# EAGLE library part DDR_II (library con-fci)
DDR II 240P Source: http://portal.fciconnect.com - gs-12-251.pdf
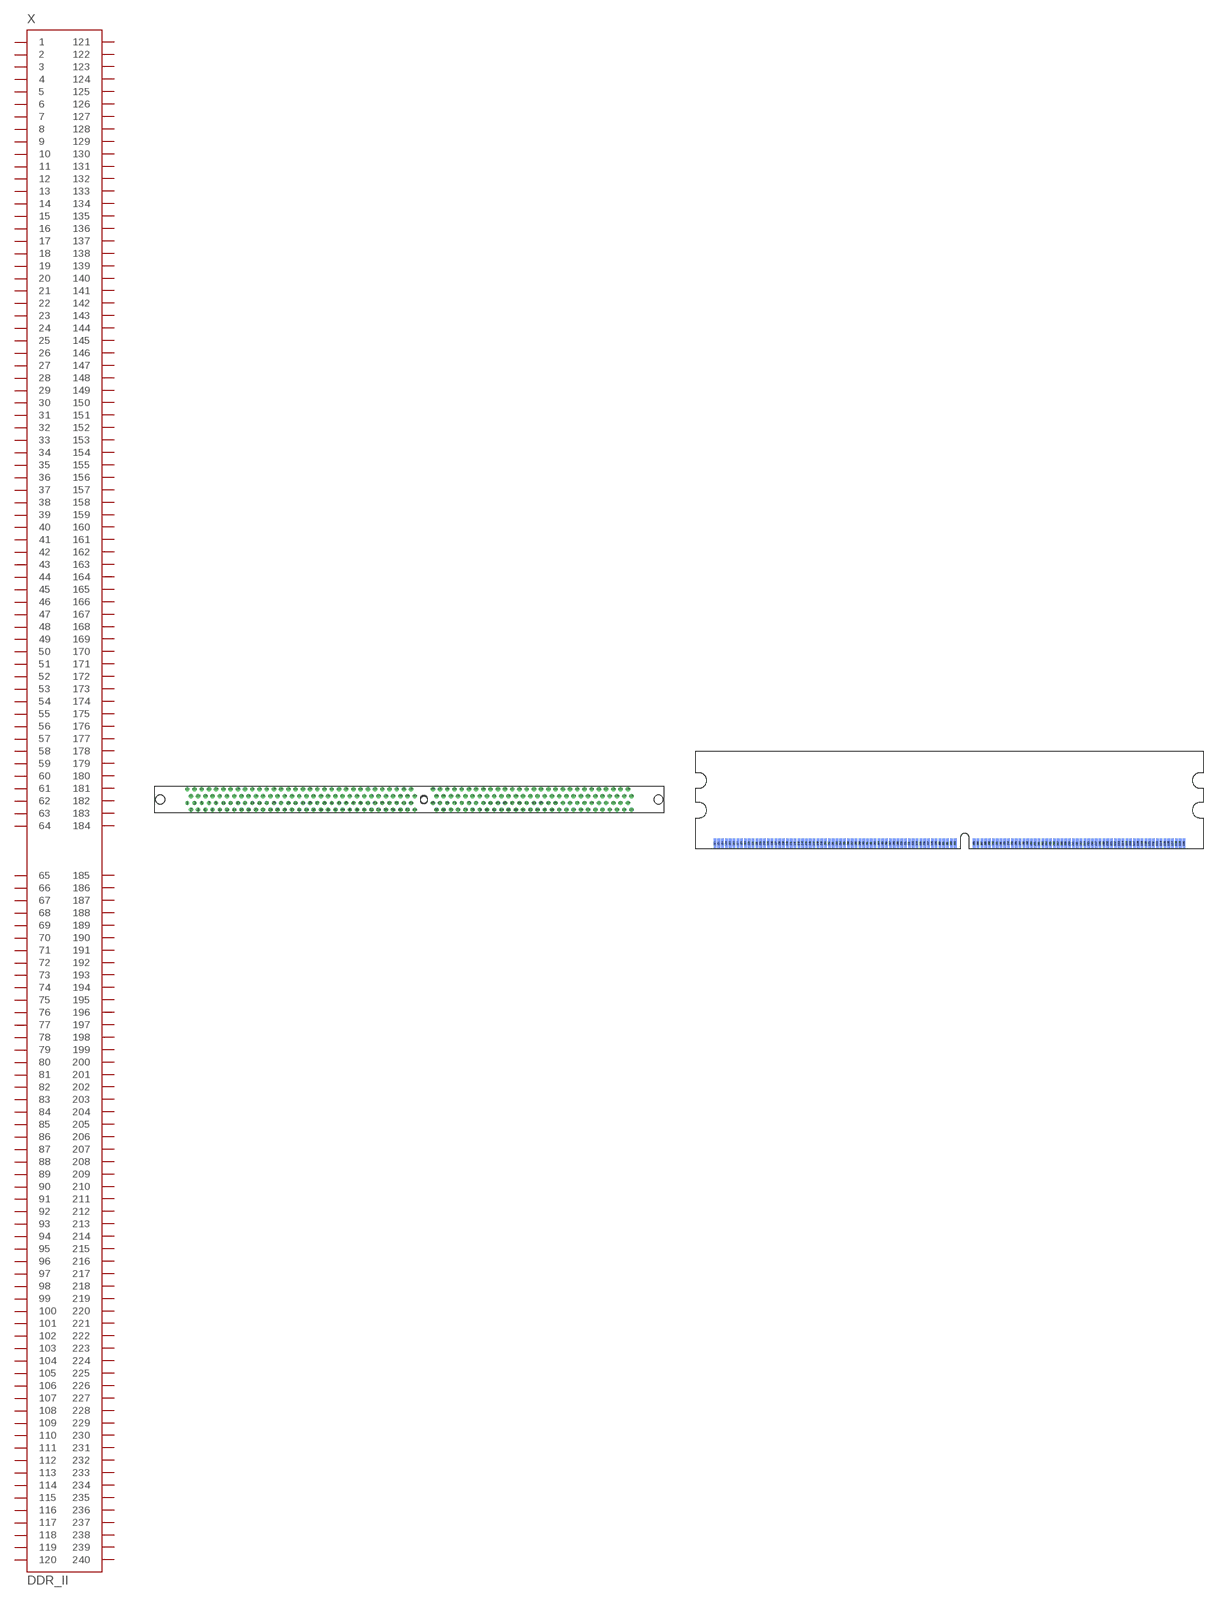
[diagram p0: symbol with the pads of GS-12-251; footprints GS-12-251, DDR_II_MODUL]

Designator prefix X

## DDR_IIGS-12-251 (OC_FARNELL: unknown; OC_NEWARK: unknown)  [GS-12-251]
1  1  pas
2  2  pas
3  3  pas
4  4  pas
5  5  pas
6  6  pas
7  7  pas
8  8  pas
9  9  pas
10  10  pas
11  11  pas
12  12  pas
13  13  pas
14  14  pas
15  15  pas
16  16  pas
17  17  pas
18  18  pas
19  19  pas
20  20  pas
21  21  pas
22  22  pas
23  23  pas
24  24  pas
25  25  pas
26  26  pas
27  27  pas
28  28  pas
29  29  pas
30  30  pas
31  31  pas
32  32  pas
33  33  pas
34  34  pas
35  35  pas
36  36  pas
37  37  pas
38  38  pas
39  39  pas
40  40  pas
41  41  pas
42  42  pas
43  43  pas
44  44  pas
45  45  pas
46  46  pas
47  47  pas
48  48  pas
49  49  pas
50  50  pas
51  51  pas
52  52  pas
53  53  pas
54  54  pas
55  55  pas
56  56  pas
57  57  pas
58  58  pas
59  59  pas
60  60  pas
61  61  pas
62  62  pas
63  63  pas
64  64  pas
65  65  pas
66  66  pas
67  67  pas
68  68  pas
69  69  pas
70  70  pas
71  71  pas
72  72  pas
73  73  pas
74  74  pas
75  75  pas
76  76  pas
77  77  pas
78  78  pas
79  79  pas
80  80  pas
81  81  pas
82  82  pas
83  83  pas
84  84  pas
85  85  pas
86  86  pas
87  87  pas
88  88  pas
89  89  pas
90  90  pas
91  91  pas
92  92  pas
93  93  pas
94  94  pas
95  95  pas
96  96  pas
97  97  pas
98  98  pas
99  99  pas
100  100  pas
101  101  pas
102  102  pas
103  103  pas
104  104  pas
105  105  pas
106  106  pas
107  107  pas
108  108  pas
109  109  pas
110  110  pas
111  111  pas
112  112  pas
113  113  pas
114  114  pas
115  115  pas
116  116  pas
117  117  pas
118  118  pas
119  119  pas
120  120  pas
121  121  pas
122  122  pas
123  123  pas
124  124  pas
125  125  pas
126  126  pas
127  127  pas
128  128  pas
129  129  pas
130  130  pas
131  131  pas
132  132  pas
133  133  pas
134  134  pas
135  135  pas
136  136  pas
137  137  pas
138  138  pas
139  139  pas
140  140  pas
141  141  pas
142  142  pas
143  143  pas
144  144  pas
145  145  pas
146  146  pas
147  147  pas
148  148  pas
149  149  pas
150  150  pas
151  151  pas
152  152  pas
153  153  pas
154  154  pas
155  155  pas
156  156  pas
157  157  pas
158  158  pas
159  159  pas
160  160  pas
161  161  pas
162  162  pas
163  163  pas
164  164  pas
165  165  pas
166  166  pas
167  167  pas
168  168  pas
169  169  pas
170  170  pas
171  171  pas
172  172  pas
173  173  pas
174  174  pas
175  175  pas
176  176  pas
177  177  pas
178  178  pas
179  179  pas
180  180  pas
181  181  pas
182  182  pas
183  183  pas
184  184  pas
185  185  pas
186  186  pas
187  187  pas
188  188  pas
189  189  pas
190  190  pas
191  191  pas
192  192  pas
193  193  pas
194  194  pas
195  195  pas
196  196  pas
197  197  pas
198  198  pas
199  199  pas
200  200  pas
201  201  pas
202  202  pas
203  203  pas
204  204  pas
205  205  pas
206  206  pas
207  207  pas
208  208  pas
209  209  pas
210  210  pas
211  211  pas
212  212  pas
213  213  pas
214  214  pas
215  215  pas
216  216  pas
217  217  pas
218  218  pas
219  219  pas
220  220  pas
221  221  pas
222  222  pas
223  223  pas
224  224  pas
225  225  pas
226  226  pas
227  227  pas
228  228  pas
229  229  pas
230  230  pas
231  231  pas
232  232  pas
233  233  pas
234  234  pas
235  235  pas
236  236  pas
237  237  pas
238  238  pas
239  239  pas
240  240  pas

## DDR_IIDDR_II_MODUL (OC_FARNELL: unknown; OC_NEWARK: unknown)  [DDR_II_MODUL]
Pads as for GS-12-251

## Footprint GS-12-251 (pad centres in mm)
DDR II 240P SOCKETD, 0.039" (1.00mm) PITCH Source: http://portal.fciconnect.com - gs-12-251.pdf
drill 0.7 pad 1.016: 1 -65.5,-0.95; 2 -64.5,-2.85; 3 -63.5,-0.95; 4 -62.5,-2.85; 5 -61.5,-0.95; 6 -60.5,-2.85; 7 -59.5,-0.95; 8 -58.5,-2.85; 9 -57.5,-0.95; 10 -56.5,-2.85; 11 -55.5,-0.95; 12 -54.5,-2.85; 13 -53.5,-0.95; 14 -52.5,-2.85; 15 -51.5,-0.95; 16 -50.5,-2.85; 17 -49.5,-0.95; 18 -48.5,-2.85; 19 -47.5,-0.95; 20 -46.5,-2.85; 21 -45.5,-0.95; 22 -44.5,-2.85; 23 -43.5,-0.95; 24 -42.5,-2.85; 25 -41.5,-0.95; 26 -40.5,-2.85; 27 -39.5,-0.95; 28 -38.5,-2.85; 29 -37.5,-0.95; 30 -36.5,-2.85; 31 -35.5,-0.95; 32 -34.5,-2.85; 33 -33.5,-0.95; 34 -32.5,-2.85; 35 -31.5,-0.95; 36 -30.5,-2.85; 37 -29.5,-0.95; 38 -28.5,-2.85; 39 -27.5,-0.95; 40 -26.5,-2.85; 41 -25.5,-0.95; 42 -24.5,-2.85; 43 -23.5,-0.95; 44 -22.5,-2.85; 45 -21.5,-0.95; 46 -20.5,-2.85; 47 -19.5,-0.95; 48 -18.5,-2.85; 49 -17.5,-0.95; 50 -16.5,-2.85; 51 -15.5,-0.95; 52 -14.5,-2.85; 53 -13.5,-0.95; 54 -12.5,-2.85; 55 -11.5,-0.95; 56 -10.5,-2.85; 57 -9.5,-0.95; 58 -8.5,-2.85; 59 -7.5,-0.95; 60 -6.5,-2.85; 61 -5.5,-0.95; 62 -4.5,-2.85; 63 -3.5,-0.95; 64 -2.5,-2.85; 65 2.5,-0.95; 66 3.5,-2.85; 67 4.5,-0.95; 68 5.5,-2.85; 69 6.5,-0.95; 70 7.5,-2.85; 71 8.5,-0.95; 72 9.5,-2.85; 73 10.5,-0.95; 74 11.5,-2.85; 75 12.5,-0.95; 76 13.5,-2.85; 77 14.5,-0.95; 78 15.5,-2.85; 79 16.5,-0.95; 80 17.5,-2.85; 81 18.5,-0.95; 82 19.5,-2.85; 83 20.5,-0.95; 84 21.5,-2.85; 85 22.5,-0.95; 86 23.5,-2.85; 87 24.5,-0.95; 88 25.5,-2.85; 89 26.5,-0.95; 90 27.5,-2.85; 91 28.5,-0.95; 92 29.5,-2.85; 93 30.5,-0.95; 94 31.5,-2.85; 95 32.5,-0.95; 96 33.5,-2.85; 97 34.5,-0.95; 98 35.5,-2.85; 99 36.5,-0.95; 100 37.5,-2.85; 101 38.5,-0.95; 102 39.5,-2.85; 103 40.5,-0.95; 104 41.5,-2.85; 105 42.5,-0.95; 106 43.5,-2.85; 107 44.5,-0.95; 108 45.5,-2.85; 109 46.5,-0.95; 110 47.5,-2.85; 111 48.5,-0.95; 112 49.5,-2.85; 113 50.5,-0.95; 114 51.5,-2.85; 115 52.5,-0.95; 116 53.5,-2.85; 117 54.5,-0.95; 118 55.5,-2.85; 119 56.5,-0.95; 120 57.5,-2.85; 121 -65.5,2.85; 122 -64.5,0.95; 123 -63.5,2.85; 124 -62.5,0.95; 125 -61.5,2.85; 126 -60.5,0.95; 127 -59.5,2.85; 128 -58.5,0.95; 129 -57.5,2.85; 130 -56.5,0.95; 131 -55.5,2.85; 132 -54.5,0.95; 133 -53.5,2.85; 134 -52.5,0.95; 135 -51.5,2.85; 136 -50.5,0.95; 137 -49.5,2.85; 138 -48.5,0.95; 139 -47.5,2.85; 140 -46.5,0.95; 141 -45.5,2.85; 142 -44.5,0.95; 143 -43.5,2.85; 144 -42.5,0.95; 145 -41.5,2.85; 146 -40.5,0.95; 147 -39.5,2.85; 148 -38.5,0.95; 149 -37.5,2.85; 150 -36.5,0.95; 151 -35.5,2.85; 152 -34.5,0.95; 153 -33.5,2.85; 154 -32.5,0.95; 155 -31.5,2.85; 156 -30.5,0.95; 157 -29.5,2.85; 158 -28.5,0.95; 159 -27.5,2.85; 160 -26.5,0.95; 161 -25.5,2.85; 162 -24.5,0.95; 163 -23.5,2.85; 164 -22.5,0.95; 165 -21.5,2.85; 166 -20.5,0.95; 167 -19.5,2.85; 168 -18.5,0.95; 169 -17.5,2.85; 170 -16.5,0.95; 171 -15.5,2.85; 172 -14.5,0.95; 173 -13.5,2.85; 174 -12.5,0.95; 175 -11.5,2.85; 176 -10.5,0.95; 177 -9.5,2.85; 178 -8.5,0.95; 179 -7.5,2.85; 180 -6.5,0.95; 181 -5.5,2.85; 182 -4.5,0.95; 183 -3.5,2.85; 184 -2.5,0.95; 185 2.5,2.85; 186 3.5,0.95; 187 4.5,2.85; 188 5.5,0.95; 189 6.5,2.85; 190 7.5,0.95; 191 8.5,2.85; 192 9.5,0.95; 193 10.5,2.85; 194 11.5,0.95; 195 12.5,2.85; 196 13.5,0.95; 197 14.5,2.85; 198 15.5,0.95; 199 16.5,2.85; 200 17.5,0.95; 201 18.5,2.85; 202 19.5,0.95; 203 20.5,2.85; 204 21.5,0.95; 205 22.5,2.85; 206 23.5,0.95; 207 24.5,2.85; 208 25.5,0.95; 209 26.5,2.85; 210 27.5,0.95; 211 28.5,2.85; 212 29.5,0.95; 213 30.5,2.85; 214 31.5,0.95; 215 32.5,2.85; 216 33.5,0.95; 217 34.5,2.85; 218 35.5,0.95; 219 36.5,2.85; 220 37.5,0.95; 221 38.5,2.85; 222 39.5,0.95; 223 40.5,2.85; 224 41.5,0.95; 225 42.5,2.85; 226 43.5,0.95; 227 44.5,2.85; 228 45.5,0.95; 229 46.5,2.85; 230 47.5,0.95; 231 48.5,2.85; 232 49.5,0.95; 233 50.5,2.85; 234 51.5,0.95; 235 52.5,2.85; 236 53.5,0.95; 237 54.5,2.85; 238 55.5,0.95; 239 56.5,2.85; 240 57.5,0.95
hole 2.45 at 65,0
hole 1.8 at 0,0
hole 2.45 at -73,0

## Footprint DDR_II_MODUL (pad centres in mm)
DDR II 240P MODUL, 0.039" (1.00mm) PITCH Source: http://portal.fciconnect.com - gs-12-251.pdf
smd 0.7 x 2.5: 1 -65.5,1.3; 2 -64.5,1.3; 3 -63.5,1.3; 4 -62.5,1.3; 5 -61.5,1.3; 6 -60.5,1.3; 7 -59.5,1.3; 8 -58.5,1.3; 9 -57.5,1.3; 10 -56.5,1.3; 11 -55.5,1.3; 12 -54.5,1.3; 13 -53.5,1.3; 14 -52.5,1.3; 15 -51.5,1.3; 16 -50.5,1.3; 17 -49.5,1.3; 18 -48.5,1.3; 19 -47.5,1.3; 20 -46.5,1.3; 21 -45.5,1.3; 22 -44.5,1.3; 23 -43.5,1.3; 24 -42.5,1.3; 25 -41.5,1.3; 26 -40.5,1.3; 27 -39.5,1.3; 28 -38.5,1.3; 29 -37.5,1.3; 30 -36.5,1.3; 31 -35.5,1.3; 32 -34.5,1.3; 33 -33.5,1.3; 34 -32.5,1.3; 35 -31.5,1.3; 36 -30.5,1.3; 37 -29.5,1.3; 38 -28.5,1.3; 39 -27.5,1.3; 40 -26.5,1.3; 41 -25.5,1.3; 42 -24.5,1.3; 43 -23.5,1.3; 44 -22.5,1.3; 45 -21.5,1.3; 46 -20.5,1.3; 47 -19.5,1.3; 48 -18.5,1.3; 49 -17.5,1.3; 50 -16.5,1.3; 51 -15.5,1.3; 52 -14.5,1.3; 53 -13.5,1.3; 54 -12.5,1.3; 55 -11.5,1.3; 56 -10.5,1.3; 57 -9.5,1.3; 58 -8.5,1.3; 59 -7.5,1.3; 60 -6.5,1.3; 61 -5.5,1.3; 62 -4.5,1.3; 63 -3.5,1.3; 64 -2.5,1.3; 65 2.5,1.3; 66 3.5,1.3; 67 4.5,1.3; 68 5.5,1.3; 69 6.5,1.3; 70 7.5,1.3; 71 8.5,1.3; 72 9.5,1.3; 73 10.5,1.3; 74 11.5,1.3; 75 12.5,1.3; 76 13.5,1.3; 77 14.5,1.3; 78 15.5,1.3; 79 16.5,1.3; 80 17.5,1.3; 81 18.5,1.3; 82 19.5,1.3; 83 20.5,1.3; 84 21.5,1.3; 85 22.5,1.3; 86 23.5,1.3; 87 24.5,1.3; 88 25.5,1.3; 89 26.5,1.3; 90 27.5,1.3; 91 28.5,1.3; 92 29.5,1.3; 93 30.5,1.3; 94 31.5,1.3; 95 32.5,1.3; 96 33.5,1.3; 97 34.5,1.3; 98 35.5,1.3; 99 36.5,1.3; 100 37.5,1.3; 101 38.5,1.3; 102 39.5,1.3; 103 40.5,1.3; 104 41.5,1.3; 105 42.5,1.3; 106 43.5,1.3; 107 44.5,1.3; 108 45.5,1.3; 109 46.5,1.3; 110 47.5,1.3; 111 48.5,1.3; 112 49.5,1.3; 113 50.5,1.3; 114 51.5,1.3; 115 52.5,1.3; 116 53.5,1.3; 117 54.5,1.3; 118 55.5,1.3; 119 56.5,1.3; 120 57.5,1.3
smd 0.7 x 2.5 bottom: 121 -65.5,1.3; 122 -64.5,1.3; 123 -63.5,1.3; 124 -62.5,1.3; 125 -61.5,1.3; 126 -60.5,1.3; 127 -59.5,1.3; 128 -58.5,1.3; 129 -57.5,1.3; 130 -56.5,1.3; 131 -55.5,1.3; 132 -54.5,1.3; 133 -53.5,1.3; 134 -52.5,1.3; 135 -51.5,1.3; 136 -50.5,1.3; 137 -49.5,1.3; 138 -48.5,1.3; 139 -47.5,1.3; 140 -46.5,1.3; 141 -45.5,1.3; 142 -44.5,1.3; 143 -43.5,1.3; 144 -42.5,1.3; 145 -41.5,1.3; 146 -40.5,1.3; 147 -39.5,1.3; 148 -38.5,1.3; 149 -37.5,1.3; 150 -36.5,1.3; 151 -35.5,1.3; 152 -34.5,1.3; 153 -33.5,1.3; 154 -32.5,1.3; 155 -31.5,1.3; 156 -30.5,1.3; 157 -29.5,1.3; 158 -28.5,1.3; 159 -27.5,1.3; 160 -26.5,1.3; 161 -25.5,1.3; 162 -24.5,1.3; 163 -23.5,1.3; 164 -22.5,1.3; 165 -21.5,1.3; 166 -20.5,1.3; 167 -19.5,1.3; 168 -18.5,1.3; 169 -17.5,1.3; 170 -16.5,1.3; 171 -15.5,1.3; 172 -14.5,1.3; 173 -13.5,1.3; 174 -12.5,1.3; 175 -11.5,1.3; 176 -10.5,1.3; 177 -9.5,1.3; 178 -8.5,1.3; 179 -7.5,1.3; 180 -6.5,1.3; 181 -5.5,1.3; 182 -4.5,1.3; 183 -3.5,1.3; 184 -2.5,1.3; 185 2.5,1.3; 186 3.5,1.3; 187 4.5,1.3; 188 5.5,1.3; 189 6.5,1.3; 190 7.5,1.3; 191 8.5,1.3; 192 9.5,1.3; 193 10.5,1.3; 194 11.5,1.3; 195 12.5,1.3; 196 13.5,1.3; 197 14.5,1.3; 198 15.5,1.3; 199 16.5,1.3; 200 17.5,1.3; 201 18.5,1.3; 202 19.5,1.3; 203 20.5,1.3; 204 21.5,1.3; 205 22.5,1.3; 206 23.5,1.3; 207 24.5,1.3; 208 25.5,1.3; 209 26.5,1.3; 210 27.5,1.3; 211 28.5,1.3; 212 29.5,1.3; 213 30.5,1.3; 214 31.5,1.3; 215 32.5,1.3; 216 33.5,1.3; 217 34.5,1.3; 218 35.5,1.3; 219 36.5,1.3; 220 37.5,1.3; 221 38.5,1.3; 222 39.5,1.3; 223 40.5,1.3; 224 41.5,1.3; 225 42.5,1.3; 226 43.5,1.3; 227 44.5,1.3; 228 45.5,1.3; 229 46.5,1.3; 230 47.5,1.3; 231 48.5,1.3; 232 49.5,1.3; 233 50.5,1.3; 234 51.5,1.3; 235 52.5,1.3; 236 53.5,1.3; 237 54.5,1.3; 238 55.5,1.3; 239 56.5,1.3; 240 57.5,1.3